# EAGLE library part ST2378ETTR (library ST2378ETTR)
STMicroelectronics ST2378ETTR, Logic Level Translator, Open Drain, Totem Pole, 1.71 5.5 V, 20-Pin TSSOP Source: Datasheet <https://www.st.com/resource/en/datasheet/st2378e.pdf>
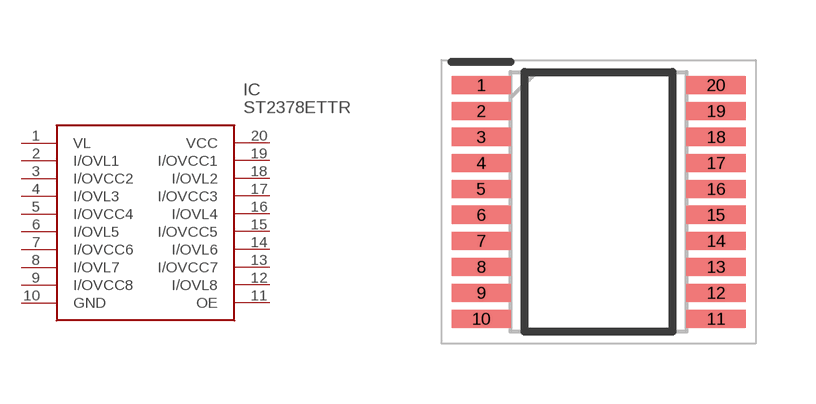
[diagram p0: symbol with the pads of SOP65P640X120-20N; footprint SOP65P640X120-20N]

Designator prefix IC

## ST2378ETTR (Description: STMicroelectronics ST2378ETTR, Logic Level Translator, Open Drain, Totem Pole, 1.71 5.5 V, 20-Pin TSSOP; Height: 1.2mm; Manufacturer_Name: STMicroelectronics; Manufacturer_Part_Number: ST2378ETTR; Mouser_Part_Number: 511-ST2378ET; Mouser_Price-Stock: https://www.mouser.co.uk/ProductDetail/STMicroelectronics/ST2378ETTR?qs=DUDHuK3gDFSwMxNsCLUurA%3D%3D)  [SOP65P640X120-20N]
1  VL
2  I/OVL1
3  I/OVCC2
4  I/OVL3
5  I/OVCC4
6  I/OVL5
7  I/OVCC6
8  I/OVL7
9  I/OVCC8
10  GND
11  OE
12  I/OVL8
13  I/OVCC7
14  I/OVL6
15  I/OVCC5
16  I/OVL4
17  I/OVCC3
18  I/OVL2
19  I/OVCC1
20  VCC

## Footprint SOP65P640X120-20N (pad centres in mm)
ST2378ETTR
smd 1.48 x 0.45: 1 -2.935,2.925; 2 -2.935,2.275; 3 -2.935,1.625; 4 -2.935,0.975; 5 -2.935,0.325; 6 -2.935,-0.325; 7 -2.935,-0.975; 8 -2.935,-1.625; 9 -2.935,-2.275; 10 -2.935,-2.925; 11 2.935,-2.925; 12 2.935,-2.275; 13 2.935,-1.625; 14 2.935,-0.975; 15 2.935,-0.325; 16 2.935,0.325; 17 2.935,0.975; 18 2.935,1.625; 19 2.935,2.275; 20 2.935,2.925